# Altium schematic symbol library JFET_N_SDG.Schlib: 1 symbol
Pins are listed as number, name and electrical type; pins without a type are passive.

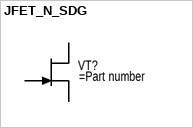
[diagram p0: symbol JFET_N_SDG]

## JFET_N_SDG
designator VT?
pins: 1 S, 2 D, 3 G